# Altium schematic symbol library Schlib DISPLAY.SchLib: 6 symbols
Pins are listed as number, name and electrical type; pins without a type are passive.

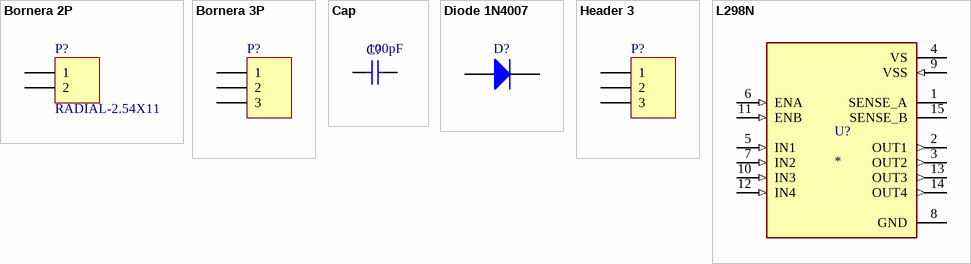
[diagram p0: symbols Bornera 2P to L298N]

## Bornera 2P
designator P?, comment RADIAL-2.54X11
LatestRevisionDate: 17-Jul-2002; LatestRevisionNote: Re-released for DXP Platform.; Publisher: Altium Limited
signal-integrity model Connector
footprint Bornera 2P (Connector; Header; 2 Position)
pins: 1, 2

## Bornera 3P
designator P?
Bornera 3P; LatestRevisionDate: 17-Jul-2002; LatestRevisionNote: Re-released for DXP Platform.; Publisher: Altium Limited
signal-integrity model Connector
footprint Bornera 3P (Connector; Header; 2 Position)
pins: 1, 2, 3

## Cap
designator C?  value 100pF
Capacitor; Published: 8-Jun-2000; LatestRevisionDate: 17-Jul-2002; LatestRevisionNote: Re-released for DXP Platform.; PackageReference: RAD-0.3; Publisher: Altium Limited; PackageDescription: Radial Cap, Thru-Hole; 2 Leads; 0.3 in Pin Spacing
simulation model CAP (Capacitor)
signal-integrity model Cap
footprint Capacitor (Polarized Capacitor (Radial); 2 Leads)
pins: 1, 2

## Diode 1N4007
designator D?
1 Amp General Purpose Rectifier; Published: 8-Jun-2000; LatestRevisionDate: 17-Jul-2002; LatestRevisionNote: Re-released for DXP Platform.; DatasheetVersion: 1998; PackageVersion: Aug-1999; PackageReference: DO-41; Publisher: Altium Limited; PackageDescription: Diode, Axial; Body 5.2 x 2.7 mm (LxDia. max), Lead Dia. 0.86 mm (max); Code_JEDEC: DO-204-AL; ComponentLink1Description: Manufacturer Link; ComponentLink1URL: http://www.fairchildsemi.com/; ComponentLink2Description: Datasheet; ComponentLink2URL: http://www.fairchildsemi.com/ds/1N%2F1N4001.pdf
simulation model 1N4007 (DIODE)
signal-integrity model 1N4007
footprint Axial diodo (Diode, Axial; Body 5.2 x 2.7 mm (LxDia. max), Lead Dia. 0.86 mm (max))
pins: 1 A, 2 K

## Header 3
designator P?
Header, 3-Pin; LatestRevisionDate: 17-Jul-2002; LatestRevisionNote: Re-released for DXP Platform.; Publisher: Altium Limited
signal-integrity model Connector
footprint HDR1X3 (Connector; Header; 3 Position)
pins: 1, 2, 3

## L298N
designator U?
Dual Full Bridge Motor Driver 15-Pin(15+Tab) MULTIWATT V Tube; MP: L298N; Availability: Unavailable; Package: None; Value: *; Price: None
footprint TO127P2020X500X2100-15
pins: 1 SENSE_A, 2 OUT1 (out), 3 OUT2 (out), 4 VS (power), 5 IN1 (in), 6 ENA (in), 7 IN2 (in), 8 GND (power), 9 VSS (in), 10 IN3 (in), 11 ENB (in), 12 IN4 (in), 13 OUT3 (out), 14 OUT4 (out), 15 SENSE_B